# Altium footprint library fszhang.PcbLib: 172 footprints (part 4 of 11)
Each footprint in its own frame and in the unit in brackets; x right, y up, seen from the top. Pads: shape width x height; smd on the part's side, far side on the other; paste and mask are expansions set on the pad; w line width, h text height; cw(c..) or ccw(c..) is an arc to the next point about the centre after c.
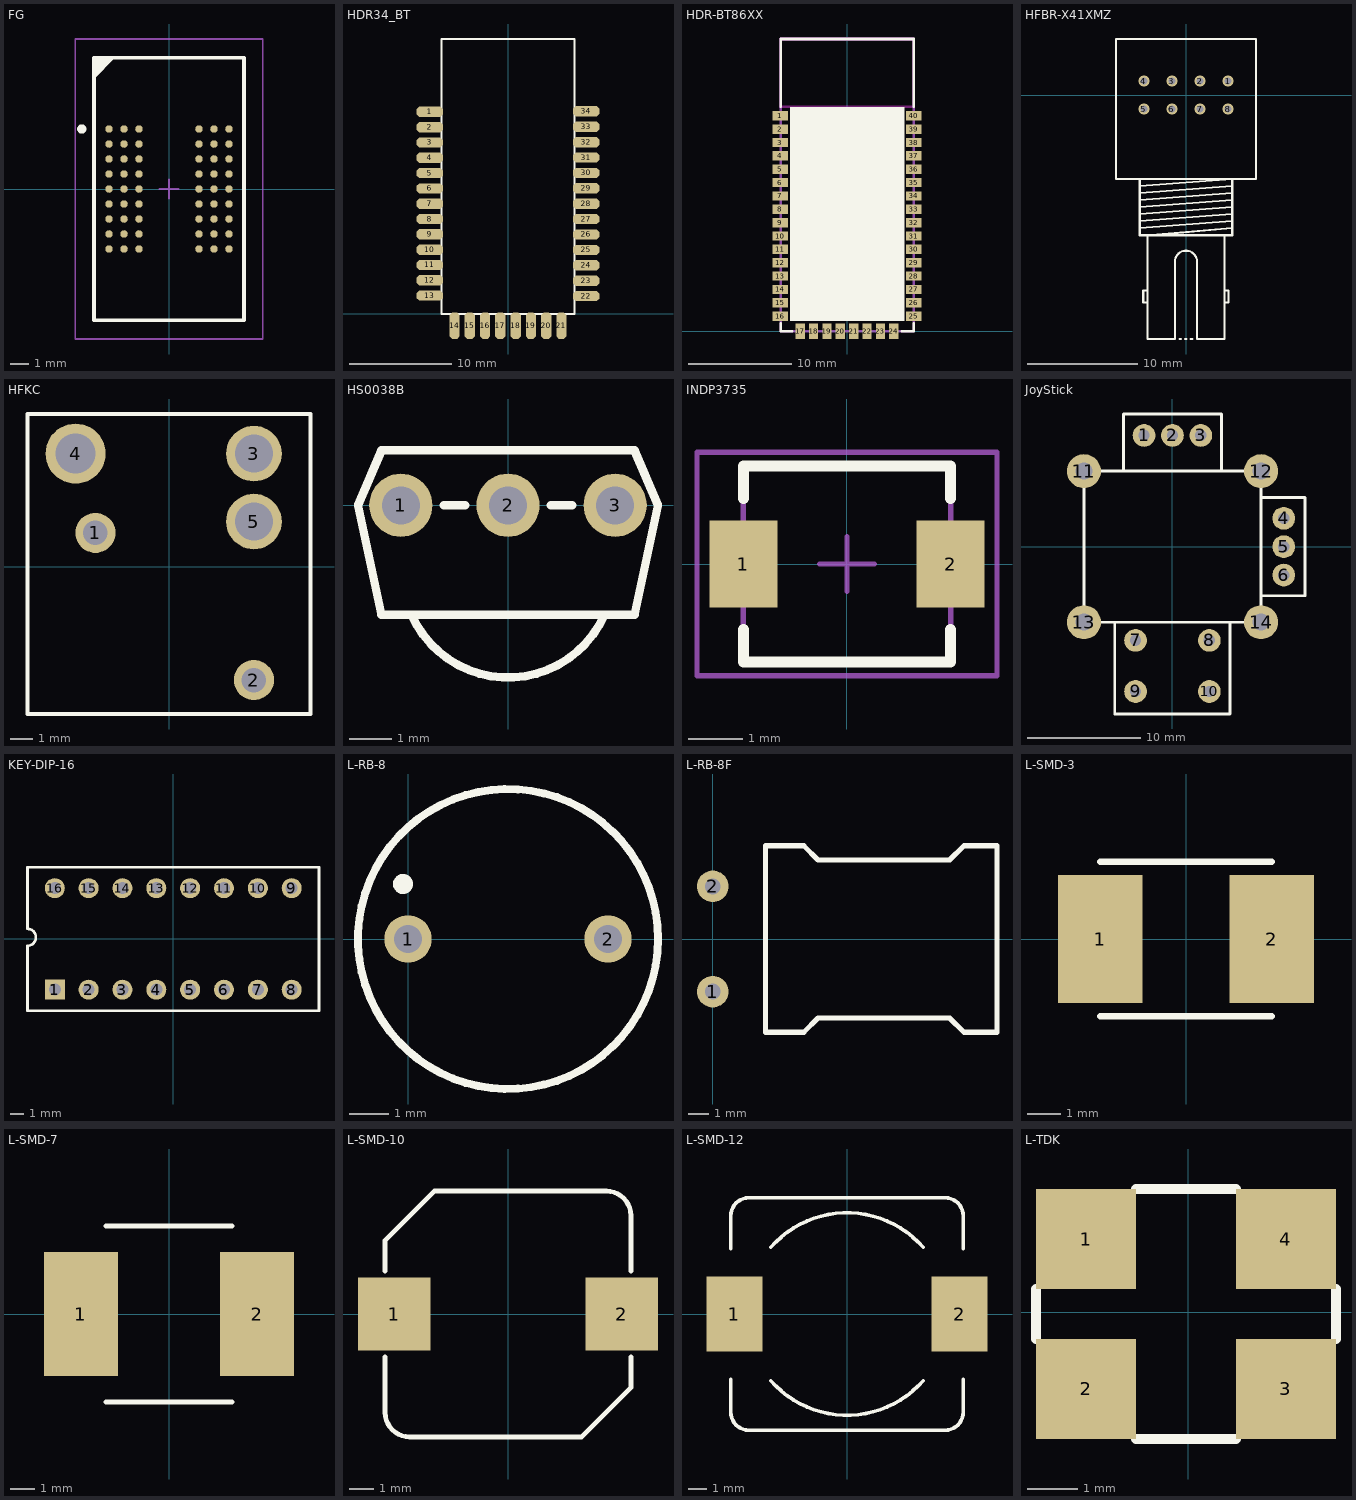
[diagram p3: the footprints below, top view; thin cyan lines are the x and y axes]

## FG [mm] "BGA, 54-Leads, Body 14x8mm, Pitch 0.8mm"
height 1
pads (54):
  round 0.4 smd: A1(-3.2,3.2) A2(-2.4,3.2) A3(-1.6,3.2) A7(1.6,3.2) A8(2.4,3.2) A9(3.2,3.2) B1(-3.2,2.4) B2(-2.4,2.4) B3(-1.6,2.4) B7(1.6,2.4) B8(2.4,2.4) B9(3.2,2.4) C1(-3.2,1.6) C2(-2.4,1.6) C3(-1.6,1.6) C7(1.6,1.6) C8(2.4,1.6) C9(3.2,1.6) D1(-3.2,0.8) D2(-2.4,0.8) D3(-1.6,0.8) D7(1.6,0.8) D8(2.4,0.8) D9(3.2,0.8) E1(-3.2,0) E2(-2.4,0) E3(-1.6,0) E7(1.6,0) E8(2.4,0) E9(3.2,0) F1(-3.2,-0.8) F2(-2.4,-0.8) F3(-1.6,-0.8) F7(1.6,-0.8) F8(2.4,-0.8) F9(3.2,-0.8) G1(-3.2,-1.6) G2(-2.4,-1.6) G3(-1.6,-1.6) G7(1.6,-1.6) G8(2.4,-1.6) G9(3.2,-1.6) H1(-3.2,-2.4) H2(-2.4,-2.4) H3(-1.6,-2.4) H7(1.6,-2.4) H8(2.4,-2.4) H9(3.2,-2.4) J1(-3.2,-3.2) J2(-2.4,-3.2) J3(-1.6,-3.2) J7(1.6,-3.2) J8(2.4,-3.2) J9(3.2,-3.2)
Top Overlay:
  circle w0.25: c-4.65,3.2 r0.125
  region: -3,7 -4,6 -4,7
  lines w0.2: -4,6 -3,7 ; -4,-7 4,-7 4,7 -4,7 -4,-7
Mechanical 13:
  lines w0.1: -4,-7 4,-7 4,7 -4,7 -4,-7
Mechanical 15:
  lines w0.1: -0.5,0 0.5,0 ; 0,-0.5 0,0.5 ; -5,-8 5,-8 5,8 -5,8 -5,-8
3D body: height 1, standoff 0, extent -4,-7 4,7

## HDR34_BT [mm] "蓝牙模块"
pads (34):
  oct 2.6x1 smd: 1(-7.62,19.697) 2(-7.62,18.205) 3(-7.62,16.712) 4(-7.62,15.22) 5(-7.62,13.728) 6(-7.62,12.236) 7(-7.62,10.743) 8(-7.62,9.251) 9(-7.62,7.759) 10(-7.62,6.267) 11(-7.62,4.774) 12(-7.62,3.282) 13(-7.62,1.79) 22(7.62,1.74) 23(7.62,3.241) 24(7.62,4.741) 25(7.62,6.242) 26(7.62,7.742) 27(7.62,9.243) 28(7.62,10.743) 29(7.62,12.244) 30(7.62,13.745) 31(7.62,15.245) 32(7.62,16.746) 33(7.62,18.246) 34(7.62,19.747)
  oct 1x2.6 smd: 14(-5.207,-1.143) 15(-3.719,-1.143) 16(-2.232,-1.143) 17(-0.744,-1.143) 18(0.744,-1.143) 19(2.232,-1.143) 20(3.719,-1.143) 21(5.207,-1.143)
Top Overlay:
  lines w0.2: -6.477,0 -6.477,26.797 6.477,26.797 6.477,0 0,0 -6.477,0

## HDR-BT86XX [mm]
pads (40):
  rect 1.5x0.9 smd: 1(-6.522,20.974) 2(-6.522,19.674) 3(-6.522,18.374) 4(-6.522,17.074) 5(-6.522,15.774) 6(-6.522,14.474) 7(-6.522,13.174) 8(-6.522,11.874) 9(-6.522,10.574) 10(-6.522,9.274) 11(-6.522,7.974) 12(-6.522,6.674) 13(-6.522,5.374) 14(-6.522,4.074) 15(-6.522,2.774) 16(-6.522,1.474) 25(6.478,1.474) 26(6.478,2.774) 27(6.478,4.074) 28(6.478,5.374) 29(6.478,6.674) 30(6.478,7.974) 31(6.478,9.274) 32(6.478,10.574) 33(6.478,11.874) 34(6.478,13.174) 35(6.478,14.474) 36(6.478,15.774) 37(6.478,17.074) 38(6.478,18.374) 39(6.478,19.674) 40(6.478,20.974)
  rect 0.9x1.5 smd: 17(-4.572,0) 18(-3.272,0) 19(-1.972,0) 20(-0.672,0) 21(0.628,0) 22(1.928,0) 23(3.228,0) 24(4.528,0)
Top Overlay:
  rectangle: -5.588,1.016 5.588,21.844
  lines w0.254: -6.477,0.762 -6.477,0 -5.334,0 ; -6.477,21.844 -6.477,28.448 6.477,28.448 6.477,21.844 ; 5.334,0 6.477,0 6.477,0.762
Keep-Out Layer:
  lines w0.254: -6.477,21.844 6.477,21.844 6.477,28.448 -6.477,28.448 -6.477,21.844
Mechanical 13:
  lines w0.254: -6.477,0 6.477,0 6.477,28.448 -6.477,28.448 -6.477,0

## HFBR-X41XMZ [mm] "光串口"
height 10.2
pads (8):
  round 1 hole 0.6: 1(3.81,1.27) 2(1.27,1.27) 3(-1.27,1.27) 4(-3.81,1.27) 5(-3.81,-1.27) 6(-1.27,-1.27) 7(1.27,-1.27) 8(3.81,-1.27)
Top Overlay:
  lines w0.2: -4.2,-12.065 4.2,-11.43 ; -4.2,-11.43 4.2,-10.795 ; -4.2,-10.795 4.2,-10.16 ; -4.2,-10.16 4.2,-9.525 ; -4.2,-9.525 4.2,-8.89 ; -4.2,-8.89 4.191,-8.255 ; -4.191,-8.255 4.2,-7.62 ; -3.5,-18.82 -3.881,-18.82 -3.881,-17.72 -3.5,-17.72 ; -3.175,-12.72 4.2,-12.065 ; -0.579,-22.12 -0.452,-22.12 ; -0.071,-22.12 0.056,-22.12 ; 0.437,-22.12 0.564,-22.12 ; 1,-15.12 1,-22.12 3.5,-22.12 3.5,-12.72 -3.5,-12.72 -3.5,-22.12 -1,-22.12 -1,-15.12 cw(c0,-15.113) 1,-15.113 ; 3.5,-18.82 3.866,-18.82 3.866,-17.72 3.5,-17.72 ; 4.2,-7.62 -4.2,-7.62 -4.2,-12.72 4.2,-12.72 4.2,-7.62 ; -6.35,-7.62 -6.35,5.08 6.35,5.08 6.35,-7.62 -6.35,-7.62

## HFKC [mm] "继电器"
height 11.8
pads (5):
  round 1.8 hole 1.1: 1(-3.302,1.524) 2(3.81,-5.08)
  round 2.5 hole 1.7: 3(3.81,5.08) 5(3.81,2.032)
  round 2.7 hole 1.8: 4(-4.191,5.08)
Top Overlay:
  lines w0.2: -6.35,-6.604 -6.35,6.858 6.35,6.858 6.35,-6.604 -6.35,-6.604

## HS0038B [mm] "红外接收头"
height 6.95
pads (3):
  round 1.5 hole 0.9: 1(-2.54,0) 2(0,0) 3(2.54,0)
Top Overlay:
  lines w0.2: -2.285,-2.599 ccw(c0,-1.584) 2.285,-2.599 ; -1.524,0 -1.016,0 ; 1.016,0 1.524,0 ; -3.556,0 -3,-2.6 3,-2.6 3.556,0 3,1.3 -3,1.3 -3.556,0

## INDP3735 [mm]
height 1.2
pads (2):
  rect 1.25x1.6 smd: 1(-1.9,0) 2(1.9,0)
Top Overlay:
  lines w0.2: -1.9,-1.2 -1.9,-1.8 1.9,-1.8 1.9,-1.2 ; -1.9,1.2 -1.9,1.8 1.9,1.8 1.9,1.2
Mechanical 13:
  lines w0.1: -1.9,-1.8 -1.9,1.8 1.9,1.8 1.9,-1.8 -1.9,-1.8
Mechanical 15:
  lines w0.1: -0.5,0 0.5,0 ; 0,-0.5 0,0.5 ; -2.75,-2.05 -2.75,2.05 2.75,2.05 2.75,-2.05 -2.75,-2.05
3D body: height 1.2, standoff 0, extent -1.9,-1.8 1.9,1.8

## JoyStick [mm] "ģ?"
height 20
pads (14):
  round 2 hole 1: 1(-2.5,9.8) 2(0,9.8) 3(2.5,9.8) 4(9.8,2.5) 5(9.8,0) 6(9.8,-2.5) 7(-3.25,-8.25) 8(3.25,-8.25) 9(-3.25,-12.75) 10(3.25,-12.75)
  round 3 hole 1.5: 11(-7.8,6.65) 12(7.8,6.65) 13(-7.8,-6.65) 14(7.8,-6.65)
Top Overlay:
  lines w0.254: -5.08,-6.65 -5.08,-14.732 5.08,-14.732 5.08,-6.65 ; -4.318,6.65 -4.318,11.684 4.318,11.684 4.318,6.65 ; 7.8,-4.318 11.684,-4.318 11.684,4.318 7.8,4.318 ; -7.8,-6.65 7.8,-6.65 7.8,6.65 -7.8,6.65 -7.8,-6.65

## KEY-DIP-16 [mm] "DIP拨码开关"
height 2.65
pads (16):
  rect 1.5x1.5 hole 0.9: 1(-8.89,-3.81)
  round 1.5 hole 0.9: 2(-6.35,-3.81) 3(-3.81,-3.81) 4(-1.27,-3.81) 5(1.27,-3.81) 6(3.81,-3.81) 7(6.35,-3.81) 8(8.89,-3.81) 9(8.89,3.81) 10(6.35,3.81) 11(3.81,3.81) 12(1.27,3.81) 13(-1.27,3.81) 14(-3.81,3.81) 15(-6.35,3.81) 16(-8.89,3.81)
Top Overlay:
  lines w0.2: -10.94,0.76 cw(c-10.94,0.125) -10.94,-0.51 -10.94,-5.4 10.94,-5.4 10.94,5.39 -10.94,5.39 -10.94,0.79

## L-RB-8 [mm] "电感"
pads (2):
  round 1.2 hole 0.7: 1(0,0) 2(5.08,0)
Top Overlay:
  circle w0.254: c-0.127,1.397 r0.127
  circle w0.2: c2.54,0 r3.81

## L-RB-8F [mil] "电感"
height 472.44
pads (2):
  round 60 hole 30: 1(0,-100) 2(0,100)
Top Overlay:
  lines w10: 100,-177.17 172.83,-177.17 200,-150 450,-150 477.17,-177.17 540,-177.17 540,177.17 477.17,177.17 450,150 200,150 172.83,177.17 100,177.17 100,-177.17

## L-SMD-3 [mm] "贴片电感3.8"
pads (2):
  rect 2.5x3.8 smd: 1(-2.54,0) 2(2.54,0)
Top Overlay:
  lines w0.2: -2.54,-2.286 2.54,-2.286 ; -2.54,2.286 2.54,2.286
3D body: height 4, standoff 0, extent -2.54,-1.905 2.54,1.905

## L-SMD-7 [mm] "贴片电感7*7"
pads (2):
  rect 3x5 smd: 1(-3.556,0) 2(3.556,0)
Top Overlay:
  lines w0.2: -2.54,-3.556 2.54,-3.556 ; -2.54,3.556 2.54,3.556
3D body: height 4, standoff 0, extent -3.556,-3.556 3.556,3.556

## L-SMD-10 [mm] "贴片电感10*10"
pads (2):
  rect 3x3 smd: 1(-4.699,0) 2(4.699,0)
Top Overlay:
  lines w0.2: -5.08,-1.778 -5.08,-4.064 ccw(c-4.064,-4.064) -4.064,-5.08 3.048,-5.08 5.08,-3.048 5.08,-1.778 ; -5.08,1.778 -5.08,3.048 -3.048,5.08 4.064,5.08 cw(c4.064,4.064) 5.08,4.064 5.08,1.778
3D body: height 4, standoff 0, extent -5.08,-5.08 5.08,5.08

## L-SMD-12 [mm] "贴片电感12*12"
height 4
pads (2):
  rect 3x4 smd: 1(-6,0) 2(6,0)
Top Overlay:
  lines w0.2: -6.2,-3.475 -6.2,-5.23 ccw(c-5.23,-5.23) -5.23,-6.2 5.23,-6.2 ccw(c5.23,-5.23) 6.2,-5.23 6.2,-3.475 ; -6.2,3.475 -6.2,5.23 cw(c-5.23,5.23) -5.23,6.2 5.23,6.2 cw(c5.23,5.23) 6.2,5.23 6.2,3.475 ; -4.064,-3.556 ccw(c0,0) 4.064,-3.556 ; -4.064,3.556 cw(c0,0) 4.064,3.556
3D body: height 2.5, standoff 0.3, extent -5.273,-5.303 5.315,5.29
3D body: height 0.6, standoff 0, extent -6.207,-6.233 6.207,6.182

## L-TDK [mm]
height 10
pads (4):
  rect 2x2 smd: 1(-2.048,1.46) 2(-2.048,-1.54) 3(1.952,-1.54) 4(1.952,1.46)
Top Overlay:
  lines w0.2: -3.048,-0.54 -3.048,0.46 ; -1.048,-2.54 0.952,-2.54 ; -1.048,2.46 0.952,2.46 ; 2.952,-0.54 2.952,0.46